# Altium schematic symbol library MSS1278H-393MED.SchLib: 1 symbol
Pins are listed as number, name and electrical type; pins without a type are passive.

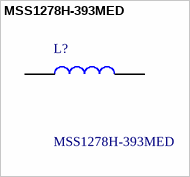
[diagram p0: symbol MSS1278H-393MED]

## MSS1278H-393MED
designator L?
Fixed Inductors 39uH Shld 3.7A 20% DCR=53mOhms AEC-Q200; Manufacturer_Name: COILCRAFT; Geometry.Height: 8.05mm; Mouser Part Number: 994-MSS1278H-393MED; Mouser Price/Stock: https://www.mouser.co.uk/ProductDetail/Coilcraft/MSS1278H-393MED?qs=KUoIvG%2F9IlbbN%252BGe0LWuiw%3D%3D; Manufacturer_Part_Number: MSS1278H-393MED; Datasheet Link: https://www.coilcraft.com/getmedia/72ffd561-3941-457d-b0e7-bb55b1b2d1a7/MSS1278H.pdf
footprint INDPM120120X805N
pins: 1, 2